# EAGLE library part LSM6DSM (library DubSat1 Components)
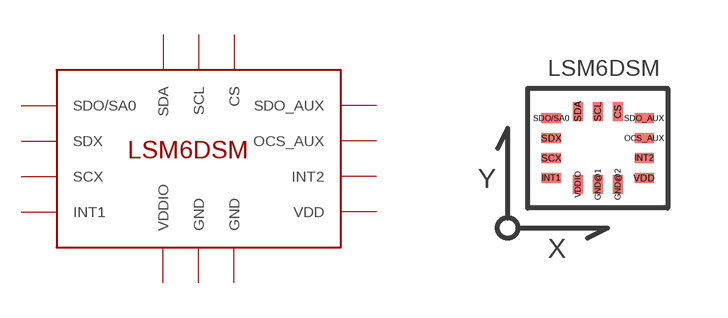
[diagram p7: symbol with the pads of LSM6DSM; footprint LSM6DSM]

Designator prefix U

## LSM6DSM  [LSM6DSM]
CS  CS
GND@1  GND
GND@2  GND
INT1  INT1
INT2  INT2
OCS_AUX  OCS_AUX
SCL  SCL
SCX  SCX
SDA  SDA
SDO/SA0  SDO/SA0
SDO_AUX  SDO_AUX
SDX  SDX
VDD  VDD
VDDIO  VDDIO

## Footprint LSM6DSM (pad centres in mm)
smd 0.25 x 0.475: CS 0.5,0.912; GND@1 0,-0.912; GND@2 0.5,-0.912; SCL 0,0.912; SDA -0.5,0.912; VDDIO -0.5,-0.912
smd 0.475 x 0.25: INT1 -1.163,-0.75; INT2 1.163,-0.25; OCS_AUX 1.163,0.25; SCX -1.163,-0.25; SDO/SA0 -1.163,0.75; SDO_AUX 1.163,0.75; SDX -1.163,0.25; VDD 1.163,-0.75